# EAGLE library part USBLC6-2 (library borkedlabs-diodes)
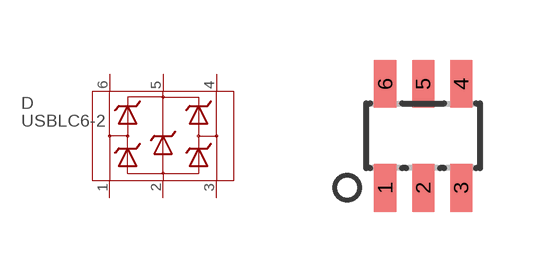
[diagram p1: symbol with the pads of SOT23-6L; footprint SOT23-6L]

Designator prefix D

## USBLC6-2 (PACKAGE: SOT23-6)  [SOT23-6L]
1  I/O1
2  GND
3  I/O2
4  I/O2
5  VBUS
6  I/O1

## Footprint SOT23-6L (pad centres in mm)
Small Outline Transistor DBV (R-PDSO-G5) Source: http://focus.ti.com/lit/ds/symlink/tps77001.pdf
smd 0.55 x 1.2: 1 -0.95,-1.3; 2 0,-1.3; 3 0.95,-1.3; 4 0.95,1.3; 5 0,1.3; 6 -0.95,1.3